# EAGLE library part BQ21040 (library LX_Eagle_Lib)
TI BQ21040 0.8A, Single Cell Li-Ion/Li-Pol Battery Charger Vin: 3.5 - 28V BATT Vout: 4.2 V Mfr. #: BQ21040DBVR Mouser #: 595-BQ21040DBVR DigiKey #: 296-44196-2-ND
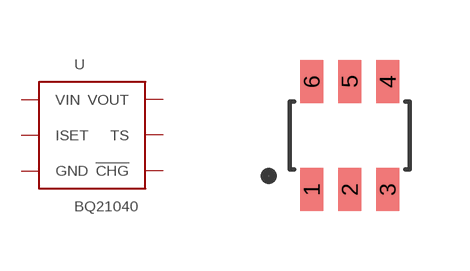
[diagram p7: symbol with the pads of SOT23; footprint SOT23]

Designator prefix U

## BQ21040  [SOT23]
1  TS
2  VOUT
3  !CHG
4  ISET
5  GND
6  VIN

## Footprint SOT23 (pad centres in mm)
smd 0.58 x 1.08: 1 -0.95,-1.35; 2 0,-1.35; 3 0.95,-1.35; 4 0.95,1.35; 5 0,1.35; 6 -0.95,1.35